# EAGLE library part MAX7500MTA (library samuel)
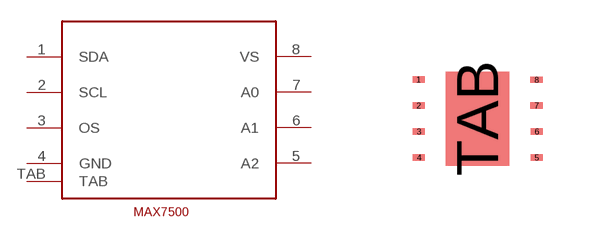
[diagram p7: symbol with the pads of TDFN-EP8; footprint TDFN-EP8]

Designator prefix -

## MAX7500MTA  [TDFN-EP8]
1  SDA
2  SCL
3  OS
4  GND
5  A2
6  A1
7  A0
8  VS
TAB  TAB

## Footprint TDFN-EP8 (pad centres in mm)
smd 0.305 x 0.152: 1 -1.407,1.299; 2 -1.407,0.649; 3 -1.4,0; 4 -1.4,-0.649; 5 1.548,-0.649; 6 1.548,0; 7 1.541,0.649; 8 1.541,1.292
smd 1.58 x 2.35: TAB 0.066,0.325